# Altium footprint library Inductor Radial 283mil lead 118mil.PcbLib: 1 footprints
Each footprint in its own frame and in the unit in brackets; x right, y up, seen from the top. Pads: shape width x height; smd on the part's side, far side on the other; paste and mask are expansions set on the pad; w line width, h text height; cw(c..) or ccw(c..) is an arc to the next point about the centre after c.
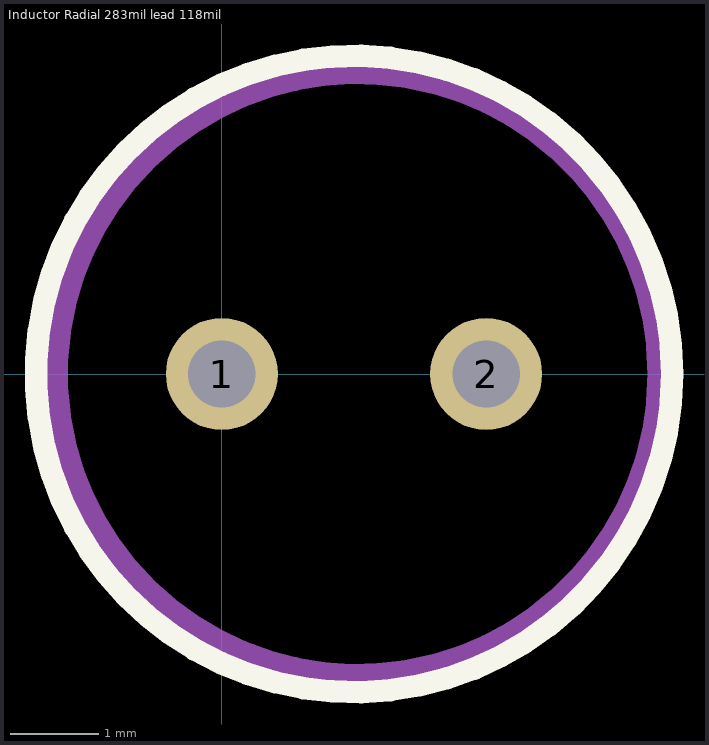
[diagram p0: the footprint, top view; thin cyan lines are the x and y axes]

## Inductor Radial 283mil lead 118mil [mil]
pads (2):
  round 50 hole 30: 1(0,0) 2(118,0)
Top Overlay:
  circle w10: c59,0 r142
Mechanical 1:
  circle w10: c60.65,0 r134.35